# Altium schematic symbol library Crystals.SchLib: 1 symbol
Pins are listed as number, name and electrical type; pins without a type are passive.

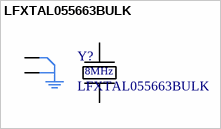
[diagram p0: symbol LFXTAL055663BULK]

## LFXTAL055663BULK
designator Y?
8MHz ±20ppm Crystal 18pF 150 Ohms 4-SMD, No Lead; PNP-Nzl: 4; PNP-dx: 0; PNP-X: 8; PNP-Y: 4.5; PNP-Thk: 1.8; PNP-Lv: 1; PNP-TS: 70; PNP-Type: tr; PNP-FeedType: Tape; PNP-TapeWidth: 16; PNP-PlacePriority: 3; PNP-TapeIndex: 2; PNP-dy: 0; PNP-A: 0; PNP-Pt: 0; PNP-W: 0; PNP-Level: 1; PNP-Voff: 0; PNP-da: 0; Supplier 1: Digi-Key; Supplier 2: Mouser; Supplier Part Number 1: 1923-1256-ND; Supplier Part Number 2: 449-LFXTAL055663BULK
footprint LFXTAL055663BULK
pins: 1, 2, 3, 4
text: 8MHz